# EAGLE library part 236-106/000-008 (library con-wago_236)
Serie 236, Stand: 01.01.2012. Die jeweils aktuellen Daten zu diesem Artikel finden Sie in unserem Produktkatalog, den Sie unter www.wago.com einsehen können. As of: 01/01/2012. Please find the newest data for this article in our product catalogue, which can be viewed under www.wago.com.
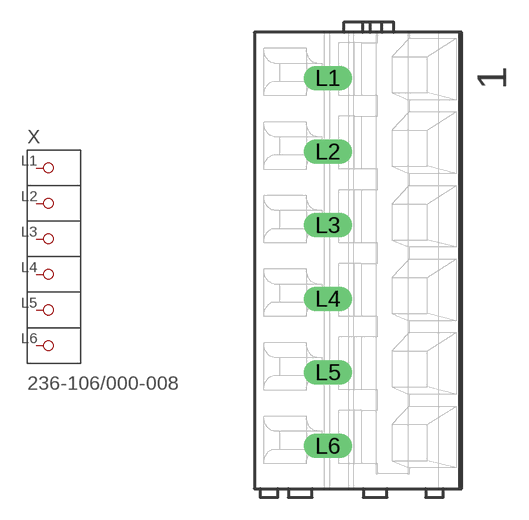
[diagram p124: symbol with the pads of P-236-106; footprint P-236-106]

Designator prefix X

## 236-106/000-008  [P-236-106]
L1  P1
L2  P2
L3  P3
L4  P4
L5  P5
L6  P6

## Footprint P-236-106 (pad centres in mm)
drill 1.1 long: L1 -2.043,12.35; L2 -2.043,7.35; L3 -2.043,2.35; L4 -2.043,-2.65; L5 -2.043,-7.65; L6 -2.043,-12.65